# EAGLE library part 691413720004 (library Wuerth_Elektronik_eiCan_Terminal_Blocks_v2.0)
WR-TBL Serie 413 - 5.0mm Screwless 45° Entry - 3 mm2 Wires, 4 Pins
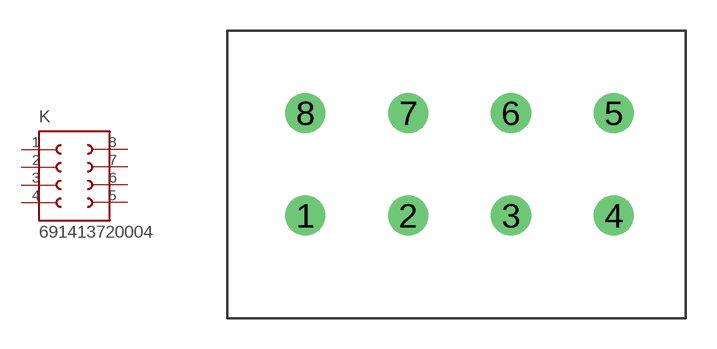
[diagram p281: symbol with the pads of 691413720004; footprint 691413720004]

Designator prefix K

## 691413720004  [691413720004]
1  1  pas
2  2  pas
3  3  pas
4  4  pas
5  5  pas
6  6  pas
7  7  pas
8  8  pas

## Footprint 691413720004 (pad centres in mm)
WR-TBL Serie 413 - 5.0mm Screwless 45° Entry - 3 mm2 Wires, 4 Pins
drill 1.3 round: 1 -5,0.04; 2 0,0.04; 3 5,0.04; 4 10,0.04; 5 10,5.04; 6 5,5.04; 7 0,5.04; 8 -5,5.04